# Altium schematic symbol library SMT-0540-S-R.SchLib: 1 symbol
Pins are listed as number, name and electrical type; pins without a type are passive.

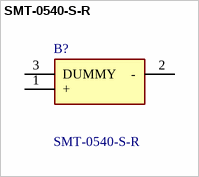
[diagram p0: symbol SMT-0540-S-R]

## SMT-0540-S-R
designator B?
Speakers & Transducers SMD TRANSDUCER 3VP-P 100MA; Manufacturer_Name: PUI Audio; Geometry.Height: 2mm; Manufacturer_Part_Number: SMT-0540-S-R; Mouser Part Number: 665-SMT0540SR; Mouser Price/Stock: https://www.mouser.co.uk/ProductDetail/PUI-Audio/SMT-0540-S-R?qs=e16JbV5WBEu5VaDVzQP23Q%3D%3D; Arrow Part Number: *; Arrow Price/Stock: *; Datasheet Link: http://www.puiaudio.com/pdf/SMT-0540-S-R.pdf
footprint SMT0540SR
pins: 1 +, 2 -, 3 DUMMY